# EAGLE library part MCP9808 (library Jordi)
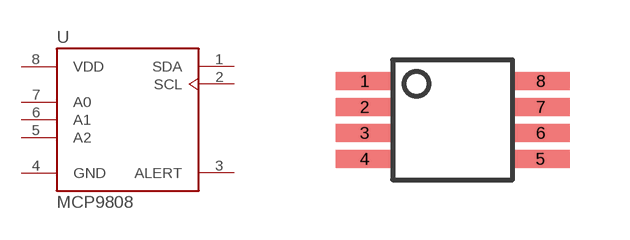
[diagram p29: symbol with the pads of MSOP-8; footprint MSOP-8]

Designator prefix U

## MCP9808MSOP  [MSOP-8]
1  SDA  in
2  SCL
3  ALERT  out
4  GND  pwr
5  A2  in
6  A1  in
7  A0  in
8  VDD  pwr

## Footprint MSOP-8 (pad centres in mm)
smd 1.45 x 0.45: 1 -2.2,0.975; 2 -2.2,0.325; 3 -2.2,-0.325; 4 -2.2,-0.975; 5 2.2,-0.975; 6 2.2,-0.325; 7 2.2,0.325; 8 2.2,0.975